# Altium footprint library InductorsFootprint.PcbLib: 1 footprints
Each footprint in its own frame and in the unit in brackets; x right, y up, seen from the top. Pads: shape width x height; smd on the part's side, far side on the other; paste and mask are expansions set on the pad; w line width, h text height; cw(c..) or ccw(c..) is an arc to the next point about the centre after c.
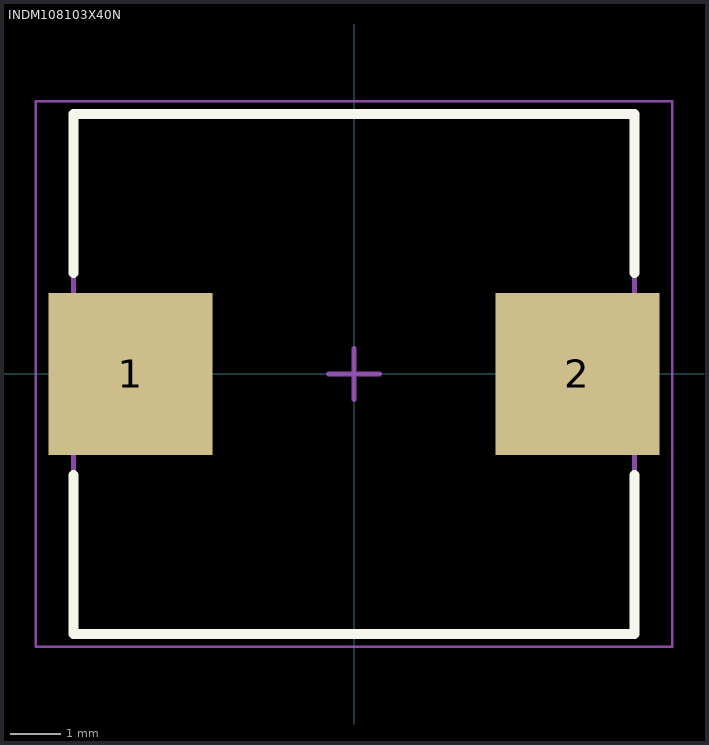
[diagram p0: the footprint, top view; thin cyan lines are the x and y axes]

## INDM108103X40N [mm] "Molded Inductor, 2-Leads, Body 10.80x10.31mm, IPC Medium Density"
height 4
pads (2):
  rect 3.25x3.2 smd: 1(-4.425,0) 2(4.425,0)
Top Overlay:
  lines w0.2: -5.55,-2 -5.55,-5.15 5.55,-5.15 5.55,-2 ; -5.55,2 -5.55,5.15 5.55,5.15 5.55,2
Mechanical 13:
  lines w0.1: -5.55,-5.145 -5.55,5.145 5.55,5.145 5.55,-5.145 -5.55,-5.145
Mechanical 15:
  lines w0.05: -6.3,-5.4 -6.3,5.4 6.3,5.4 6.3,-5.4 -6.3,-5.4
  lines w0.1: -0.5,0 0.5,0 ; 0,-0.5 0,0.5
3D body "INDM108103X40N.step": height 4, standoff 0, extent -5.77,-5.145 5.77,5.145